# Altium schematic symbol library USB_3.0.SchLib: 1 symbol
Pins are listed as number, name and electrical type; pins without a type are passive.

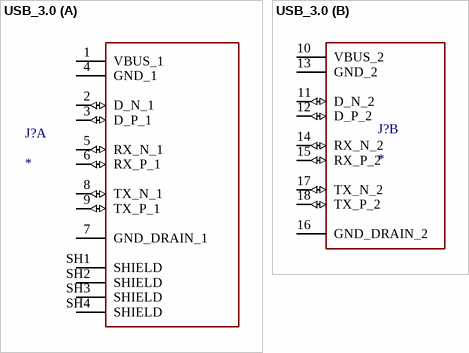
[diagram p0: symbol USB_3.0]

## USB_3.0
designator J?
USB 3.0 - A Connector | 2 Port | Stacked Right Angle Receptacle | Shielded; MF: Stewart Connector; MP: SS-52000-003; SnapEDA_Link: https://www.snapeda.com/parts/SS-52000-003/Stewart+Connector/view-part/?ref=snap; Package: None; Value: *; Check_prices: https://www.snapeda.com/parts/SS-52000-003/Stewart+Connector/view-part/?ref=eda
footprint STEWART_SS-52000-003 (Footprint not found)
part A pins: 1 VBUS_1 (power), 2 D_N_1 (io), 3 D_P_1 (io), 4 GND_1 (power), 5 RX_N_1 (io), 6 RX_P_1 (io), 7 GND_DRAIN_1 (power), 8 TX_N_1 (io), 9 TX_P_1 (io), SH1 SHIELD, SH2 SHIELD, SH3 SHIELD, SH4 SHIELD
part B pins: 10 VBUS_2 (power), 11 D_N_2 (io), 12 D_P_2 (io), 13 GND_2 (power), 14 RX_N_2 (io), 15 RX_P_2 (io), 16 GND_DRAIN_2 (power), 17 TX_N_2 (io), 18 TX_P_2 (io)